# Altium schematic symbol library DanSquidAdapterParts.SchLib: 12 symbols
Pins are listed as number, name and electrical type; pins without a type are passive.

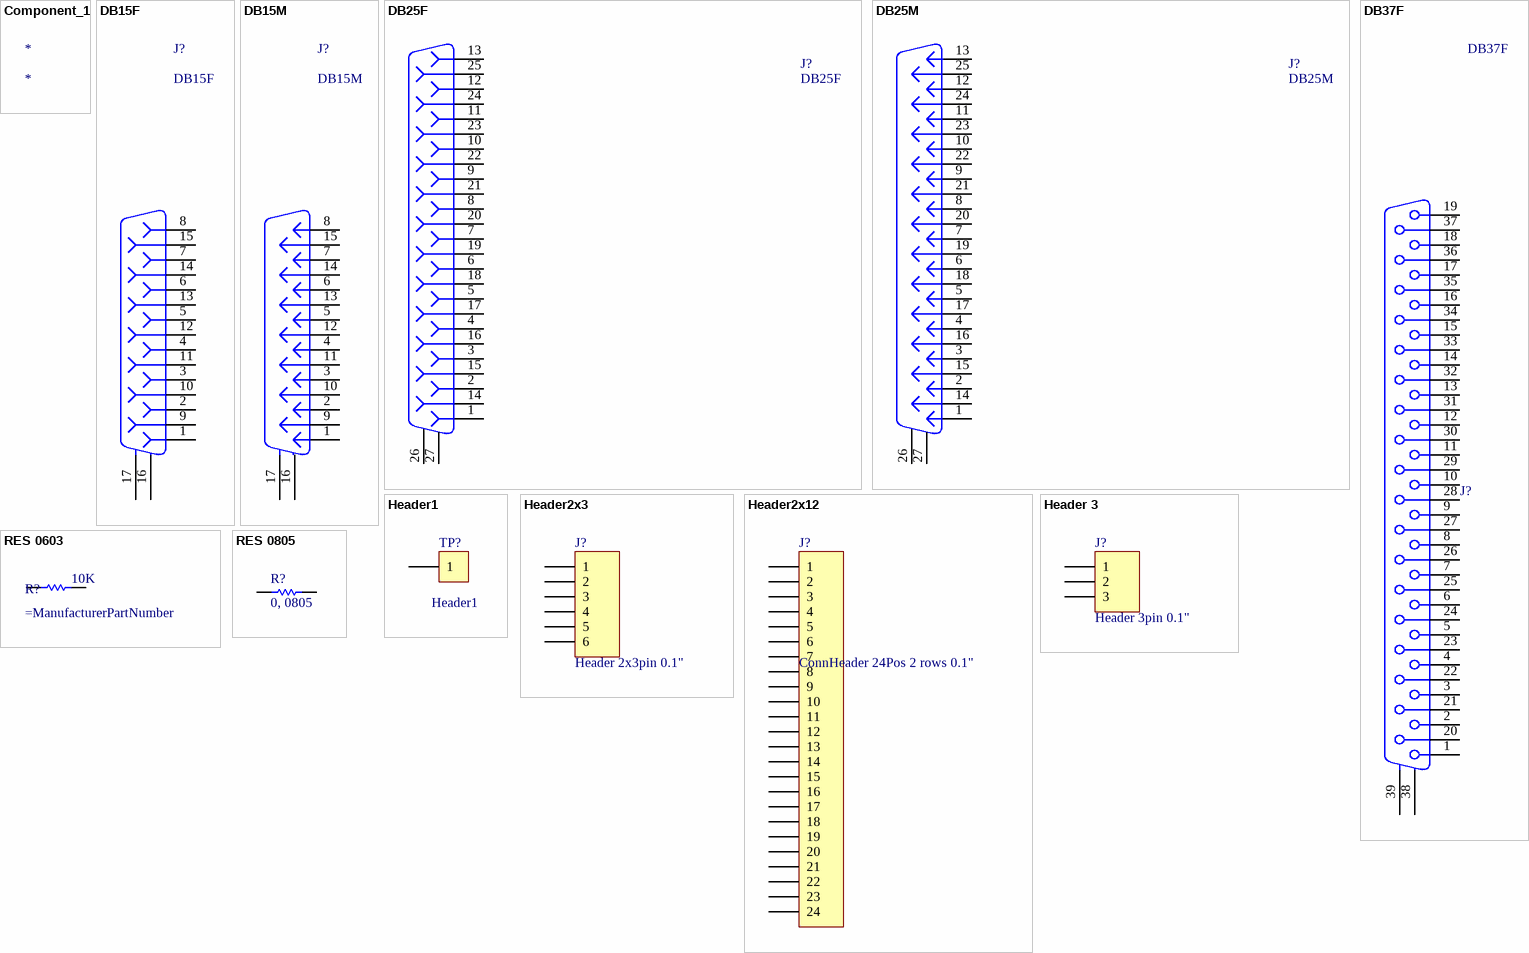
[diagram p0: symbols Component_1 to RES 0805]

## Component_1
designator *

## DB15F
designator J?
footprint DSUB15-F
pins: 1, 2, 3, 4, 5, 6, 7, 8, 9, 10, 11, 12, 13, 14, 15, 16 MH1, 17 MH2

## DB15M
designator J?
footprint DSUB15-M
pins: 1, 2, 3, 4, 5, 6, 7, 8, 9, 10, 11, 12, 13, 14, 15, 16 MH1, 17 MH2

## DB25F
designator J?
footprint DSUB25-F
pins: 1, 2, 3, 4, 5, 6, 7, 8, 9, 10, 11, 12, 13, 14, 15, 16, 17, 18, 19, 20, 21, 22, 23, 24, 25, 26 MH1, 27 MH2

## DB25M
designator J?
footprint DSUB25-M
pins: 1, 2, 3, 4, 5, 6, 7, 8, 9, 10, 11, 12, 13, 14, 15, 16, 17, 18, 19, 20, 21, 22, 23, 24, 25, 26 MH1, 27 MH2

## DB37F
designator J?
DB37F; Manufacturer: Generic; Symbol status: Proto; Manufacturer Part Number: DB37F
pins: 1, 2, 3, 4, 5, 6, 7, 8, 9, 10, 11, 12, 13, 14, 15, 16, 17, 18, 19, 20, 21, 22, 23, 24, 25, 26, 27, 28, 29, 30, 31, 32, 33, 34, 35, 36, 37, 38 MH1, 39 MH2
1 alternate drawing of the same symbol

## Header1
designator TP?
TestPoint1; Footprint: *; Techinf: *
footprint HDR1
pins: 1

## Header2x3
designator J?, comment Header 2x3pin 0.1"
signal-integrity model Connector
footprint HDR2X3
pins: 1, 2, 3, 4, 5, 6

## Header2x12
designator J?, comment ConnHeader 24Pos 2 rows 0.1"
Header 2x12pin 0.1" (AHJ24L-ND); Part Constraints: 5102156-5; Supplier 1: Digi-Key; Supplier Part Number 1: AHJ24L-ND
footprint ConnHeader24Pos (24 pin Vertical header (AHJ24L-ND))
pins: 1, 2, 3, 4, 5, 6, 7, 8, 9, 10, 11, 12, 13, 14, 15, 16, 17, 18, 19, 20, 21, 22, 23, 24

## Header 3
designator J?, comment Header 3pin 0.1"
Header, 0.1"  3-Pin straight (Any equivalent - may need to be value added); Manufacturer: Digikey; Manufacturers P/N: A26508-03-ND
footprint HDR1X3
signal-integrity model Connector
pins: 1, 2, 3

## RES 0603
designator R?  value 10K
Resistor; ManufacturerPartNumber: 10K 1/10W 1% 100ppm/C 0603; Manufacturer: Generic; ManufacturerPartNumber 1: e.g CRCW0603 series; Tolerance: 1%; Power: 1/10W; TempCoef: 100ppm/C; Footprint: 0603; Supplier 1: Arrow; Supplier 2: Digi-Key; Supplier Part Number 1: 4070372S9500174N6892; Supplier Part Number 2: 541-0.0GDKR-ND
footprint 0603
pins: 1 1 , 2

## RES 0805
designator R?, comment 0, 0805
RES 0.0 OHM 1/8W 0805 SMD; Manufacturers P/N: e.g CRCW08050000Z0EAHP; Manufacturer: e.g Vishay/Dale; Part constraints: 0Ohm jumper, >=4A, 0805, <=5mOhms; Param1: 200ppm/C; Value: DNL; CanPurchaseFrom: Newark; Param: 1%
simulation model RESISTOR (Resistor)
signal-integrity model Res
footprint 0805
pins: 1, 2